# EAGLE library part BQ24070 (library texas)
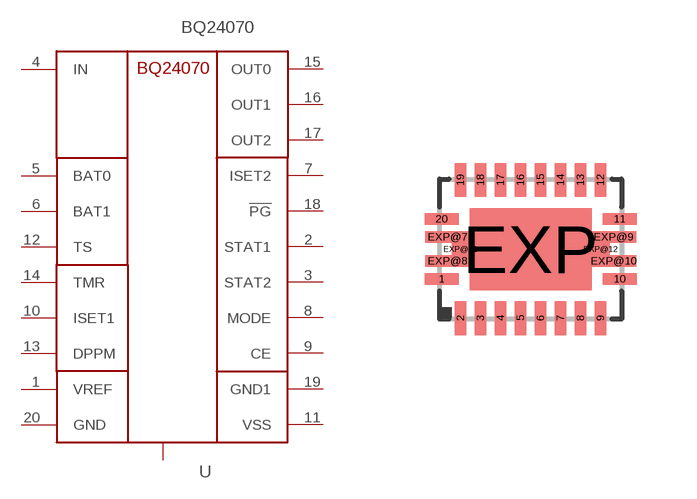
[diagram p61: symbol with the pads of QFN20; footprint QFN20]

Designator prefix U

## BQ24070  [QFN20]
1  VREF
2  STAT1
3  STAT2
4  IN
5  BAT0
6  BAT1
7  ISET2
8  MODE
9  CE
10  ISET1
11  VSS
12  TS
13  DPPM
14  TMR
15  OUT0
16  OUT1
17  OUT2
18  !PG
19  GND1
20  GND
EXP  TERMAL  pwr
EXP@7  TERMAL  pwr
EXP@8  TERMAL  pwr
EXP@9  TERMAL  pwr
EXP@10  TERMAL  pwr
EXP@11  TERMAL  pwr
EXP@12  TERMAL  pwr

## Footprint QFN20 (pad centres in mm)
smd 0.85 x 0.28: 1 -2.225,-0.75; 10 2.225,-0.75; 11 2.225,0.75; 20 -2.225,0.75
smd 0.28 x 0.85: 2 -1.75,-1.725; 3 -1.25,-1.725; 4 -0.75,-1.725; 5 -0.25,-1.725; 6 0.25,-1.725; 7 0.75,-1.725; 8 1.25,-1.725; 9 1.75,-1.725; 12 1.75,1.725; 13 1.25,1.725; 14 0.75,1.725; 15 0.25,1.725; 16 -0.25,1.725; 17 -0.75,1.725; 18 -1.25,1.725; 19 -1.75,1.725
smd 3.05 x 2.05: EXP 0,0
smd 1.125 x 0.28: EXP@7 -2.075,0.3; EXP@8 -2.075,-0.3; EXP@9 2.075,0.3; EXP@10 2.075,-0.3
smd 0.45 x 0.4: EXP@11 -1.75,0; EXP@12 1.75,0